# Altium integrated library TI Data Converters Digital to Analog Converter.IntLib: 1533 symbols (part 69 of 99)
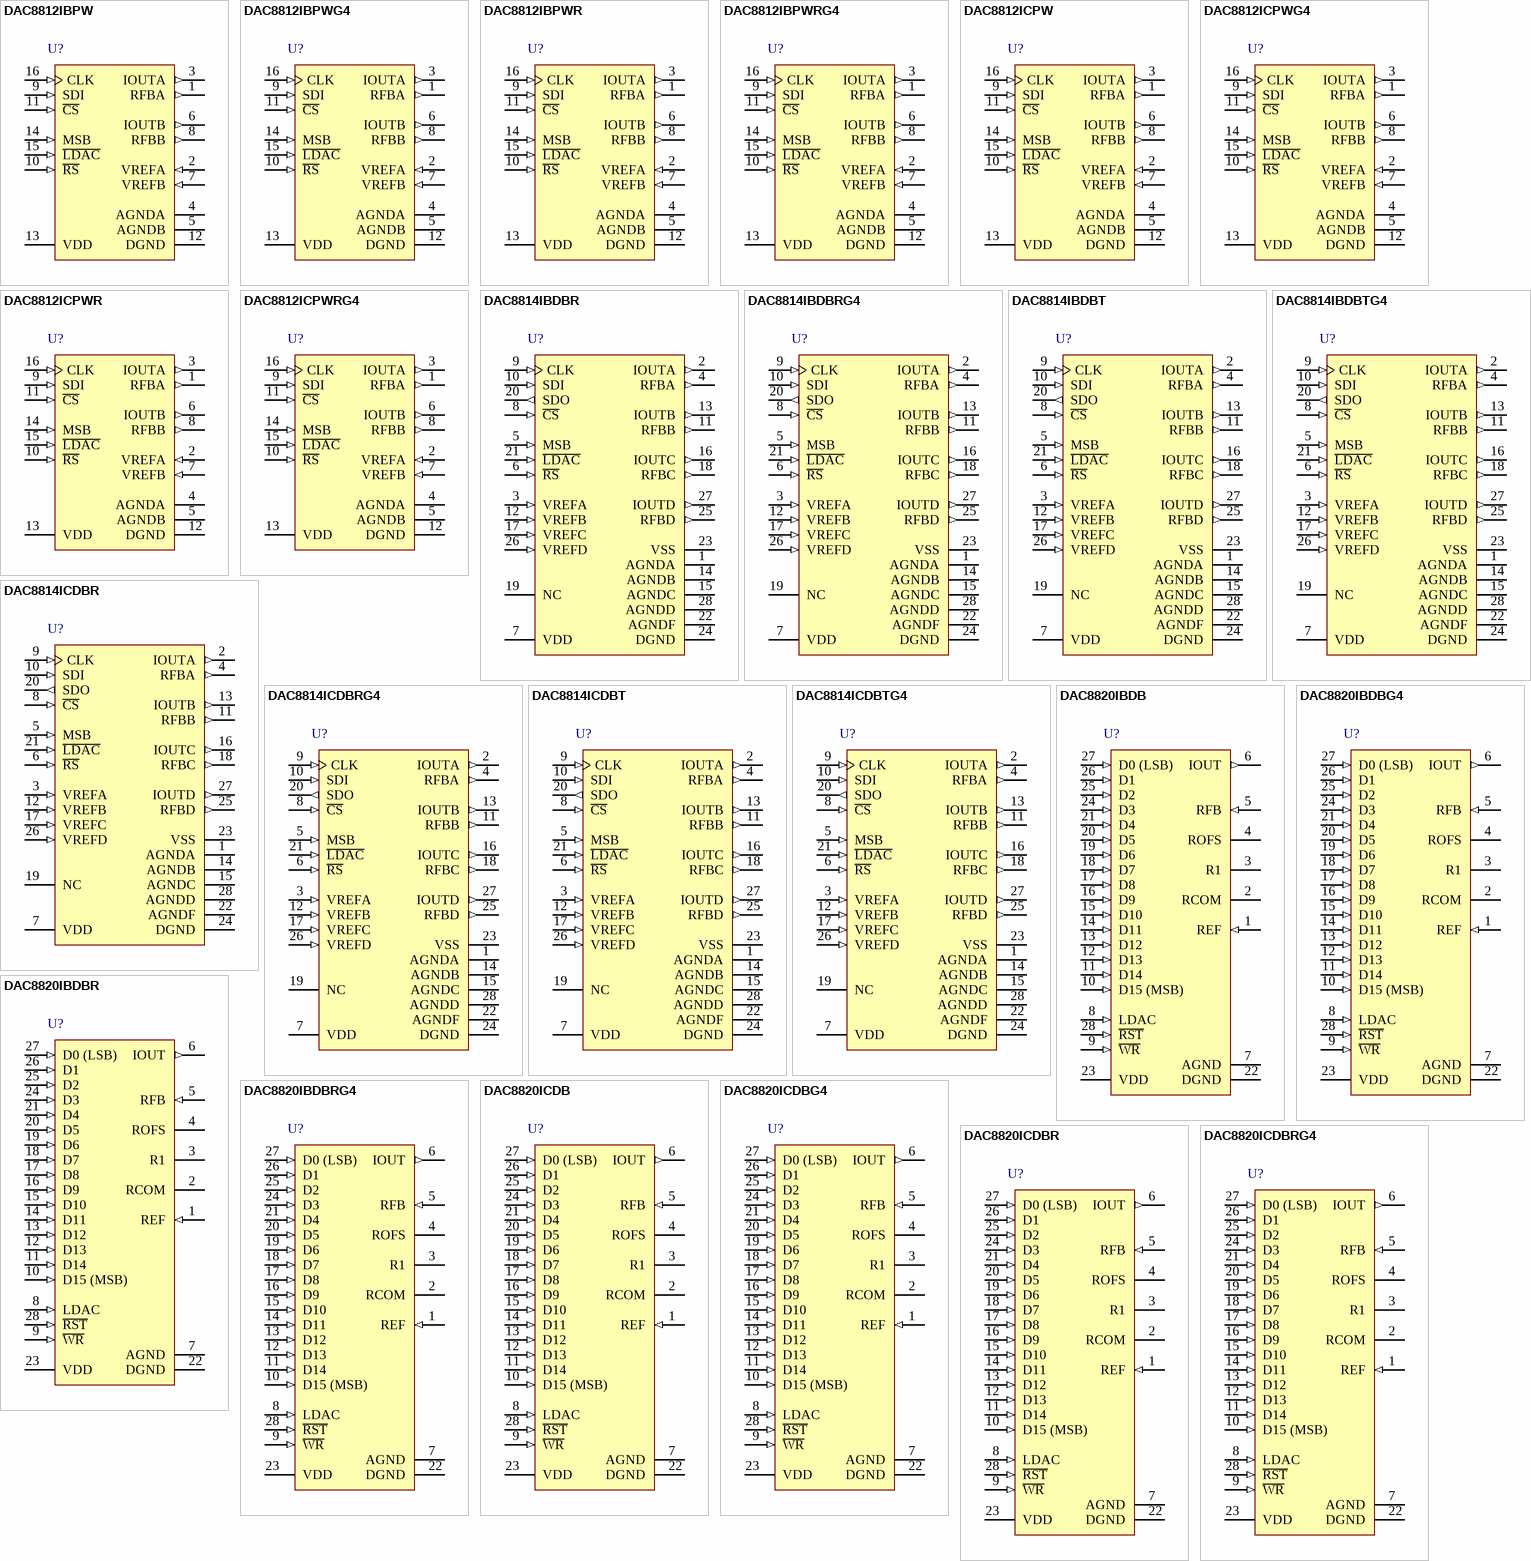
[diagram p141: symbols DAC8812IBPW to DAC8820ICDBRG4]

## DAC8814IBDBR
designator U?
16-Bit, Quad, Serial Input Multiplying Digital to Analog Converter, -40 to 85 degC, 28-pin SOP (DB28), Green (RoHS & no Sb/Br); Manufacturer: Texas Instruments; PartNumber: DAC8814IBDBR; DAC Channels: 4; DNL(Max)(+/-LSB): 1.5; Interface: Serial SPI; Resolution(Bits): 16; Settling Time(us): 0.5; SubFamily: Precision DAC (=<10MSPS); DatasheetVersion: SBAS338D; PackageVersion: 4040065/E, 12/2001; PackageReference: DB28; PackageDescription: 28-Pin Plastic Small Outline, Body 10.2 X 5.3 mm, Pitch 0.65 mm; Supplier 1: Digi-Key; Supplier Part Number 1: DAC8814IBDBR-ND; Supplier 2: Mouser; Supplier Part Number 2: 595-DAC8814IBDBR; Eco-Plan: Green (RoHS & no Sb/Br); INL(Max)(+/-LSB): 4; Mounting Technology: Surface Mount; Code_JEDEC: MO-150; ComponentLink1Description: Manufacturer URL; ComponentLink1URL: http://www.ti.com/; ComponentLink2Description: Datasheet; ComponentLink2URL: http://www.ti.com/general/docs/lit/getliterature.tsp?genericPartNumber=DAC8814&fileType=pdf; ComponentLink3Description: Package Specification; ComponentLink3URL: http://www.ti.com/lit/ml/msso002e/msso002e.pdf
footprint TI-DB28_N (SOP, 28-Leads, Body 10.2x5.3mm, Pitch 0.65mm, IPC Medium Density)
footprint TI-DB28_L (SOP, 28-Leads, Body 10.2x5.3mm, Pitch 0.65mm, IPC High Density)
footprint TI-DB28_M (SOP, 28-Leads, Body 10.2x5.3mm, Pitch 0.65mm, IPC Low Density)
pins: 1 AGNDA (power) "DAC A Analog ground.", 2 IOUTA (out) "DAC A Current output.", 3 VREFA (in) "DAC A Reference voltage input terminal. Establishes DAC full-scale output voltage. Can be tied to VDD.", 4 RFBA (out) "Establish voltage output for DAC A by connecting to external amplifier output.", 5 MSB (in) "MSB Bit set during a reset pulse (RS) or at system power-on if tied to ground or VDD.", 6 ~{RS} (in) "Reset pin, active low. Input register and DAC registers are set to all zeros or half-scale code (8000h) determined by the voltage on the MSB pin. Register data = 8000h when MSB = 1.", 7 VDD (power) "Positive power-supply input. Specified range of operation +2.7 V to +5.5 V.", 8 ~{CS} (in) "Chip select; active low input. Disables shift register loading when high. Transfers shift register data to input register when C\S\/L\D\A\C\ goes high. Does not affect LDAC operation.", 9 CLK (in) "Clock input; positive edge triggered clocks data into shift register", 10 SDI (in) "Serial data input; data loads directly into the shift register.", 11 RFBB (out) "Establish voltage output for DAC B by connecting to external amplifier output.", 12 VREFB (in) "DAC B Reference voltage input terminal. Establishes DAC full-scale output voltage. Can be tied to VDD.", 13 IOUTB (out) "DAC B Current output.", 14 AGNDB (power) "DAC B Analog ground.", 15 AGNDC (power) "DAC C Analog ground.", 16 IOUTC (out) "DAC C Current output.", 17 VREFC (in) "DAC C Reference voltage input terminal. Establishes DAC full-scale output voltage. Can be tied to VDD.", 18 RFBC (out) "Establish voltage output for DAC C by connecting to external amplifier output.", 19 NC "Not connected; leave floating.", 20 SDO (out) "Serial data output; input data loads directly into shift register. Data appears at SDO, 19 clock pulses after input at the SDI pin.", 21 ~{LDAC} (in) "Load DAC register strobe; level sensitive active low. Transfers all input register data to the DAC registers. Asynchronous active low input. See Table 1 for operation.", 22 AGNDF (power) "High current analog force ground.", 23 VSS "No internal connection.", 24 DGND (power) "Digital ground.", 25 RFBD (out) "Establish voltage output for DAC D by connecting to external amplifier output.", 26 VREFD (in) "DAC D Reference voltage input terminal. Establishes DAC full-scale output voltage. Can be tied to VDD.", 27 IOUTD (out) "DAC D Current output.", 28 AGNDD (power) "DAC D Analog ground."

## DAC8814IBDBRG4
designator U?
16-Bit, Quad, Serial Input Multiplying Digital to Analog Converter, -40 to 85 degC, 28-pin SOP (DB28), Green (RoHS & no Sb/Br); Manufacturer: Texas Instruments; PartNumber: DAC8814IBDBRG4; DAC Channels: 4; DNL(Max)(+/-LSB): 1.5; Interface: Serial SPI; Resolution(Bits): 16; Settling Time(us): 0.5; SubFamily: Precision DAC (=<10MSPS); DatasheetVersion: SBAS338D; PackageVersion: 4040065/E, 12/2001; PackageReference: DB28; PackageDescription: 28-Pin Plastic Small Outline, Body 10.2 X 5.3 mm, Pitch 0.65 mm; Supplier 1: Digi-Key; Supplier Part Number 1: DAC8814IBDBRG4-ND; Supplier 2: Mouser; Supplier Part Number 2: 595-DAC8814IBDBRG4; Eco-Plan: Green (RoHS & no Sb/Br); INL(Max)(+/-LSB): 4; Mounting Technology: Surface Mount; Code_JEDEC: MO-150; ComponentLink1Description: Manufacturer URL; ComponentLink1URL: http://www.ti.com/; ComponentLink2Description: Datasheet; ComponentLink2URL: http://www.ti.com/general/docs/lit/getliterature.tsp?genericPartNumber=DAC8814&fileType=pdf; ComponentLink3Description: Package Specification; ComponentLink3URL: http://www.ti.com/lit/ml/msso002e/msso002e.pdf
footprint TI-DB28_N (SOP, 28-Leads, Body 10.2x5.3mm, Pitch 0.65mm, IPC Medium Density)
footprint TI-DB28_L (SOP, 28-Leads, Body 10.2x5.3mm, Pitch 0.65mm, IPC High Density)
footprint TI-DB28_M (SOP, 28-Leads, Body 10.2x5.3mm, Pitch 0.65mm, IPC Low Density)
pins: 1 AGNDA (power) "DAC A Analog ground.", 2 IOUTA (out) "DAC A Current output.", 3 VREFA (in) "DAC A Reference voltage input terminal. Establishes DAC full-scale output voltage. Can be tied to VDD.", 4 RFBA (out) "Establish voltage output for DAC A by connecting to external amplifier output.", 5 MSB (in) "MSB Bit set during a reset pulse (RS) or at system power-on if tied to ground or VDD.", 6 ~{RS} (in) "Reset pin, active low. Input register and DAC registers are set to all zeros or half-scale code (8000h) determined by the voltage on the MSB pin. Register data = 8000h when MSB = 1.", 7 VDD (power) "Positive power-supply input. Specified range of operation +2.7 V to +5.5 V.", 8 ~{CS} (in) "Chip select; active low input. Disables shift register loading when high. Transfers shift register data to input register when C\S\/L\D\A\C\ goes high. Does not affect LDAC operation.", 9 CLK (in) "Clock input; positive edge triggered clocks data into shift register", 10 SDI (in) "Serial data input; data loads directly into the shift register.", 11 RFBB (out) "Establish voltage output for DAC B by connecting to external amplifier output.", 12 VREFB (in) "DAC B Reference voltage input terminal. Establishes DAC full-scale output voltage. Can be tied to VDD.", 13 IOUTB (out) "DAC B Current output.", 14 AGNDB (power) "DAC B Analog ground.", 15 AGNDC (power) "DAC C Analog ground.", 16 IOUTC (out) "DAC C Current output.", 17 VREFC (in) "DAC C Reference voltage input terminal. Establishes DAC full-scale output voltage. Can be tied to VDD.", 18 RFBC (out) "Establish voltage output for DAC C by connecting to external amplifier output.", 19 NC "Not connected; leave floating.", 20 SDO (out) "Serial data output; input data loads directly into shift register. Data appears at SDO, 19 clock pulses after input at the SDI pin.", 21 ~{LDAC} (in) "Load DAC register strobe; level sensitive active low. Transfers all input register data to the DAC registers. Asynchronous active low input. See Table 1 for operation.", 22 AGNDF (power) "High current analog force ground.", 23 VSS "No internal connection.", 24 DGND (power) "Digital ground.", 25 RFBD (out) "Establish voltage output for DAC D by connecting to external amplifier output.", 26 VREFD (in) "DAC D Reference voltage input terminal. Establishes DAC full-scale output voltage. Can be tied to VDD.", 27 IOUTD (out) "DAC D Current output.", 28 AGNDD (power) "DAC D Analog ground."

## DAC8814IBDBT
designator U?
16-Bit, Quad, Serial Input Multiplying Digital to Analog Converter, -40 to 85 degC, 28-pin SOP (DB28), Green (RoHS & no Sb/Br); Manufacturer: Texas Instruments; PartNumber: DAC8814IBDBT; DAC Channels: 4; DNL(Max)(+/-LSB): 1.5; Interface: Serial SPI; Resolution(Bits): 16; Settling Time(us): 0.5; SubFamily: Precision DAC (=<10MSPS); DatasheetVersion: SBAS338D; PackageVersion: 4040065/E, 12/2001; PackageReference: DB28; PackageDescription: 28-Pin Plastic Small Outline, Body 10.2 X 5.3 mm, Pitch 0.65 mm; Supplier 1: Digi-Key; Supplier Part Number 1: 296-18608-2-ND; Supplier 2: Digi-Key; Supplier Part Number 2: 296-18608-1-ND; Supplier 3: Digi-Key; Supplier Part Number 3: 296-18608-6-ND; Supplier 4: Newark; Supplier Part Number 4: 58K5660; Supplier 5: Mouser; Supplier Part Number 5: 595-DAC8814IBDBT; Eco-Plan: Green (RoHS & no Sb/Br); INL(Max)(+/-LSB): 4; Mounting Technology: Surface Mount; Code_JEDEC: MO-150; ComponentLink1Description: Manufacturer URL; ComponentLink1URL: http://www.ti.com/; ComponentLink2Description: Datasheet; ComponentLink2URL: http://www.ti.com/general/docs/lit/getliterature.tsp?genericPartNumber=DAC8814&fileType=pdf; ComponentLink3Description: Package Specification; ComponentLink3URL: http://www.ti.com/lit/ml/msso002e/msso002e.pdf
footprint TI-DB28_N (SOP, 28-Leads, Body 10.2x5.3mm, Pitch 0.65mm, IPC Medium Density)
footprint TI-DB28_L (SOP, 28-Leads, Body 10.2x5.3mm, Pitch 0.65mm, IPC High Density)
footprint TI-DB28_M (SOP, 28-Leads, Body 10.2x5.3mm, Pitch 0.65mm, IPC Low Density)
pins: 1 AGNDA (power) "DAC A Analog ground.", 2 IOUTA (out) "DAC A Current output.", 3 VREFA (in) "DAC A Reference voltage input terminal. Establishes DAC full-scale output voltage. Can be tied to VDD.", 4 RFBA (out) "Establish voltage output for DAC A by connecting to external amplifier output.", 5 MSB (in) "MSB Bit set during a reset pulse (RS) or at system power-on if tied to ground or VDD.", 6 ~{RS} (in) "Reset pin, active low. Input register and DAC registers are set to all zeros or half-scale code (8000h) determined by the voltage on the MSB pin. Register data = 8000h when MSB = 1.", 7 VDD (power) "Positive power-supply input. Specified range of operation +2.7 V to +5.5 V.", 8 ~{CS} (in) "Chip select; active low input. Disables shift register loading when high. Transfers shift register data to input register when C\S\/L\D\A\C\ goes high. Does not affect LDAC operation.", 9 CLK (in) "Clock input; positive edge triggered clocks data into shift register", 10 SDI (in) "Serial data input; data loads directly into the shift register.", 11 RFBB (out) "Establish voltage output for DAC B by connecting to external amplifier output.", 12 VREFB (in) "DAC B Reference voltage input terminal. Establishes DAC full-scale output voltage. Can be tied to VDD.", 13 IOUTB (out) "DAC B Current output.", 14 AGNDB (power) "DAC B Analog ground.", 15 AGNDC (power) "DAC C Analog ground.", 16 IOUTC (out) "DAC C Current output.", 17 VREFC (in) "DAC C Reference voltage input terminal. Establishes DAC full-scale output voltage. Can be tied to VDD.", 18 RFBC (out) "Establish voltage output for DAC C by connecting to external amplifier output.", 19 NC "Not connected; leave floating.", 20 SDO (out) "Serial data output; input data loads directly into shift register. Data appears at SDO, 19 clock pulses after input at the SDI pin.", 21 ~{LDAC} (in) "Load DAC register strobe; level sensitive active low. Transfers all input register data to the DAC registers. Asynchronous active low input. See Table 1 for operation.", 22 AGNDF (power) "High current analog force ground.", 23 VSS "No internal connection.", 24 DGND (power) "Digital ground.", 25 RFBD (out) "Establish voltage output for DAC D by connecting to external amplifier output.", 26 VREFD (in) "DAC D Reference voltage input terminal. Establishes DAC full-scale output voltage. Can be tied to VDD.", 27 IOUTD (out) "DAC D Current output.", 28 AGNDD (power) "DAC D Analog ground."

## DAC8814IBDBTG4
designator U?
16-Bit, Quad, Serial Input Multiplying Digital to Analog Converter, -40 to 85 degC, 28-pin SOP (DB28), Green (RoHS & no Sb/Br); Manufacturer: Texas Instruments; PartNumber: DAC8814IBDBTG4; DAC Channels: 4; DNL(Max)(+/-LSB): 1.5; Interface: Serial SPI; Resolution(Bits): 16; Settling Time(us): 0.5; SubFamily: Precision DAC (=<10MSPS); DatasheetVersion: SBAS338D; PackageVersion: 4040065/E, 12/2001; PackageReference: DB28; PackageDescription: 28-Pin Plastic Small Outline, Body 10.2 X 5.3 mm, Pitch 0.65 mm; Supplier 1: Digi-Key; Supplier Part Number 1: DAC8814IBDBTG4-ND; Supplier 2: Newark; Supplier Part Number 2: 14M1960; Supplier 3: Mouser; Supplier Part Number 3: 595-DAC8814IBDBTG4; Eco-Plan: Green (RoHS & no Sb/Br); INL(Max)(+/-LSB): 4; Mounting Technology: Surface Mount; Code_JEDEC: MO-150; ComponentLink1Description: Manufacturer URL; ComponentLink1URL: http://www.ti.com/; ComponentLink2Description: Datasheet; ComponentLink2URL: http://www.ti.com/general/docs/lit/getliterature.tsp?genericPartNumber=DAC8814&fileType=pdf; ComponentLink3Description: Package Specification; ComponentLink3URL: http://www.ti.com/lit/ml/msso002e/msso002e.pdf
footprint TI-DB28_N (SOP, 28-Leads, Body 10.2x5.3mm, Pitch 0.65mm, IPC Medium Density)
footprint TI-DB28_L (SOP, 28-Leads, Body 10.2x5.3mm, Pitch 0.65mm, IPC High Density)
footprint TI-DB28_M (SOP, 28-Leads, Body 10.2x5.3mm, Pitch 0.65mm, IPC Low Density)
pins: 1 AGNDA (power) "DAC A Analog ground.", 2 IOUTA (out) "DAC A Current output.", 3 VREFA (in) "DAC A Reference voltage input terminal. Establishes DAC full-scale output voltage. Can be tied to VDD.", 4 RFBA (out) "Establish voltage output for DAC A by connecting to external amplifier output.", 5 MSB (in) "MSB Bit set during a reset pulse (RS) or at system power-on if tied to ground or VDD.", 6 ~{RS} (in) "Reset pin, active low. Input register and DAC registers are set to all zeros or half-scale code (8000h) determined by the voltage on the MSB pin. Register data = 8000h when MSB = 1.", 7 VDD (power) "Positive power-supply input. Specified range of operation +2.7 V to +5.5 V.", 8 ~{CS} (in) "Chip select; active low input. Disables shift register loading when high. Transfers shift register data to input register when C\S\/L\D\A\C\ goes high. Does not affect LDAC operation.", 9 CLK (in) "Clock input; positive edge triggered clocks data into shift register", 10 SDI (in) "Serial data input; data loads directly into the shift register.", 11 RFBB (out) "Establish voltage output for DAC B by connecting to external amplifier output.", 12 VREFB (in) "DAC B Reference voltage input terminal. Establishes DAC full-scale output voltage. Can be tied to VDD.", 13 IOUTB (out) "DAC B Current output.", 14 AGNDB (power) "DAC B Analog ground.", 15 AGNDC (power) "DAC C Analog ground.", 16 IOUTC (out) "DAC C Current output.", 17 VREFC (in) "DAC C Reference voltage input terminal. Establishes DAC full-scale output voltage. Can be tied to VDD.", 18 RFBC (out) "Establish voltage output for DAC C by connecting to external amplifier output.", 19 NC "Not connected; leave floating.", 20 SDO (out) "Serial data output; input data loads directly into shift register. Data appears at SDO, 19 clock pulses after input at the SDI pin.", 21 ~{LDAC} (in) "Load DAC register strobe; level sensitive active low. Transfers all input register data to the DAC registers. Asynchronous active low input. See Table 1 for operation.", 22 AGNDF (power) "High current analog force ground.", 23 VSS "No internal connection.", 24 DGND (power) "Digital ground.", 25 RFBD (out) "Establish voltage output for DAC D by connecting to external amplifier output.", 26 VREFD (in) "DAC D Reference voltage input terminal. Establishes DAC full-scale output voltage. Can be tied to VDD.", 27 IOUTD (out) "DAC D Current output.", 28 AGNDD (power) "DAC D Analog ground."

## DAC8814ICDBR
designator U?
16-Bit, Quad, Serial Input Multiplying Digital to Analog Converter, -40 to 85 degC, 28-pin SOP (DB28), Green (RoHS & no Sb/Br); Manufacturer: Texas Instruments; PartNumber: DAC8814ICDBR; DAC Channels: 4; DNL(Max)(+/-LSB): 1; Interface: Serial SPI; Resolution(Bits): 16; Settling Time(us): 0.5; SubFamily: Precision DAC (=<10MSPS); DatasheetVersion: SBAS338D; PackageVersion: 4040065/E, 12/2001; PackageReference: DB28; PackageDescription: 28-Pin Plastic Small Outline, Body 10.2 X 5.3 mm, Pitch 0.65 mm; Supplier 1: Digi-Key; Supplier Part Number 1: DAC8814ICDBR-ND; Supplier 2: Mouser; Supplier Part Number 2: 595-DAC8814ICDBR; Eco-Plan: Green (RoHS & no Sb/Br); INL(Max)(+/-LSB): 1; Mounting Technology: Surface Mount; Code_JEDEC: MO-150; ComponentLink1Description: Manufacturer URL; ComponentLink1URL: http://www.ti.com/; ComponentLink2Description: Datasheet; ComponentLink2URL: http://www.ti.com/general/docs/lit/getliterature.tsp?genericPartNumber=DAC8814&fileType=pdf; ComponentLink3Description: Package Specification; ComponentLink3URL: http://www.ti.com/lit/ml/msso002e/msso002e.pdf
footprint TI-DB28_N (SOP, 28-Leads, Body 10.2x5.3mm, Pitch 0.65mm, IPC Medium Density)
footprint TI-DB28_L (SOP, 28-Leads, Body 10.2x5.3mm, Pitch 0.65mm, IPC High Density)
footprint TI-DB28_M (SOP, 28-Leads, Body 10.2x5.3mm, Pitch 0.65mm, IPC Low Density)
pins: 1 AGNDA (power) "DAC A Analog ground.", 2 IOUTA (out) "DAC A Current output.", 3 VREFA (in) "DAC A Reference voltage input terminal. Establishes DAC full-scale output voltage. Can be tied to VDD.", 4 RFBA (out) "Establish voltage output for DAC A by connecting to external amplifier output.", 5 MSB (in) "MSB Bit set during a reset pulse (RS) or at system power-on if tied to ground or VDD.", 6 ~{RS} (in) "Reset pin, active low. Input register and DAC registers are set to all zeros or half-scale code (8000h) determined by the voltage on the MSB pin. Register data = 8000h when MSB = 1.", 7 VDD (power) "Positive power-supply input. Specified range of operation +2.7 V to +5.5 V.", 8 ~{CS} (in) "Chip select; active low input. Disables shift register loading when high. Transfers shift register data to input register when C\S\/L\D\A\C\ goes high. Does not affect LDAC operation.", 9 CLK (in) "Clock input; positive edge triggered clocks data into shift register", 10 SDI (in) "Serial data input; data loads directly into the shift register.", 11 RFBB (out) "Establish voltage output for DAC B by connecting to external amplifier output.", 12 VREFB (in) "DAC B Reference voltage input terminal. Establishes DAC full-scale output voltage. Can be tied to VDD.", 13 IOUTB (out) "DAC B Current output.", 14 AGNDB (power) "DAC B Analog ground.", 15 AGNDC (power) "DAC C Analog ground.", 16 IOUTC (out) "DAC C Current output.", 17 VREFC (in) "DAC C Reference voltage input terminal. Establishes DAC full-scale output voltage. Can be tied to VDD.", 18 RFBC (out) "Establish voltage output for DAC C by connecting to external amplifier output.", 19 NC "Not connected; leave floating.", 20 SDO (out) "Serial data output; input data loads directly into shift register. Data appears at SDO, 19 clock pulses after input at the SDI pin.", 21 ~{LDAC} (in) "Load DAC register strobe; level sensitive active low. Transfers all input register data to the DAC registers. Asynchronous active low input. See Table 1 for operation.", 22 AGNDF (power) "High current analog force ground.", 23 VSS "No internal connection.", 24 DGND (power) "Digital ground.", 25 RFBD (out) "Establish voltage output for DAC D by connecting to external amplifier output.", 26 VREFD (in) "DAC D Reference voltage input terminal. Establishes DAC full-scale output voltage. Can be tied to VDD.", 27 IOUTD (out) "DAC D Current output.", 28 AGNDD (power) "DAC D Analog ground."

## DAC8814ICDBRG4
designator U?
16-Bit, Quad, Serial Input Multiplying Digital to Analog Converter, -40 to 85 degC, 28-pin SOP (DB28), Green (RoHS & no Sb/Br); Manufacturer: Texas Instruments; PartNumber: DAC8814ICDBRG4; DAC Channels: 4; DNL(Max)(+/-LSB): 1; Interface: Serial SPI; Resolution(Bits): 16; Settling Time(us): 0.5; SubFamily: Precision DAC (=<10MSPS); DatasheetVersion: SBAS338D; PackageVersion: 4040065/E, 12/2001; PackageReference: DB28; PackageDescription: 28-Pin Plastic Small Outline, Body 10.2 X 5.3 mm, Pitch 0.65 mm; Supplier 1: Digi-Key; Supplier Part Number 1: DAC8814ICDBRG4-ND; Supplier 2: Mouser; Supplier Part Number 2: 595-DAC8814ICDBRG4; Eco-Plan: Green (RoHS & no Sb/Br); INL(Max)(+/-LSB): 1; Mounting Technology: Surface Mount; Code_JEDEC: MO-150; ComponentLink1Description: Manufacturer URL; ComponentLink1URL: http://www.ti.com/; ComponentLink2Description: Datasheet; ComponentLink2URL: http://www.ti.com/general/docs/lit/getliterature.tsp?genericPartNumber=DAC8814&fileType=pdf; ComponentLink3Description: Package Specification; ComponentLink3URL: http://www.ti.com/lit/ml/msso002e/msso002e.pdf
footprint TI-DB28_N (SOP, 28-Leads, Body 10.2x5.3mm, Pitch 0.65mm, IPC Medium Density)
footprint TI-DB28_L (SOP, 28-Leads, Body 10.2x5.3mm, Pitch 0.65mm, IPC High Density)
footprint TI-DB28_M (SOP, 28-Leads, Body 10.2x5.3mm, Pitch 0.65mm, IPC Low Density)
pins: 1 AGNDA (power) "DAC A Analog ground.", 2 IOUTA (out) "DAC A Current output.", 3 VREFA (in) "DAC A Reference voltage input terminal. Establishes DAC full-scale output voltage. Can be tied to VDD.", 4 RFBA (out) "Establish voltage output for DAC A by connecting to external amplifier output.", 5 MSB (in) "MSB Bit set during a reset pulse (RS) or at system power-on if tied to ground or VDD.", 6 ~{RS} (in) "Reset pin, active low. Input register and DAC registers are set to all zeros or half-scale code (8000h) determined by the voltage on the MSB pin. Register data = 8000h when MSB = 1.", 7 VDD (power) "Positive power-supply input. Specified range of operation +2.7 V to +5.5 V.", 8 ~{CS} (in) "Chip select; active low input. Disables shift register loading when high. Transfers shift register data to input register when C\S\/L\D\A\C\ goes high. Does not affect LDAC operation.", 9 CLK (in) "Clock input; positive edge triggered clocks data into shift register", 10 SDI (in) "Serial data input; data loads directly into the shift register.", 11 RFBB (out) "Establish voltage output for DAC B by connecting to external amplifier output.", 12 VREFB (in) "DAC B Reference voltage input terminal. Establishes DAC full-scale output voltage. Can be tied to VDD.", 13 IOUTB (out) "DAC B Current output.", 14 AGNDB (power) "DAC B Analog ground.", 15 AGNDC (power) "DAC C Analog ground.", 16 IOUTC (out) "DAC C Current output.", 17 VREFC (in) "DAC C Reference voltage input terminal. Establishes DAC full-scale output voltage. Can be tied to VDD.", 18 RFBC (out) "Establish voltage output for DAC C by connecting to external amplifier output.", 19 NC "Not connected; leave floating.", 20 SDO (out) "Serial data output; input data loads directly into shift register. Data appears at SDO, 19 clock pulses after input at the SDI pin.", 21 ~{LDAC} (in) "Load DAC register strobe; level sensitive active low. Transfers all input register data to the DAC registers. Asynchronous active low input. See Table 1 for operation.", 22 AGNDF (power) "High current analog force ground.", 23 VSS "No internal connection.", 24 DGND (power) "Digital ground.", 25 RFBD (out) "Establish voltage output for DAC D by connecting to external amplifier output.", 26 VREFD (in) "DAC D Reference voltage input terminal. Establishes DAC full-scale output voltage. Can be tied to VDD.", 27 IOUTD (out) "DAC D Current output.", 28 AGNDD (power) "DAC D Analog ground."

## DAC8814ICDBT
designator U?
16-Bit, Quad, Serial Input Multiplying Digital to Analog Converter, -40 to 85 degC, 28-pin SOP (DB28), Green (RoHS & no Sb/Br); Manufacturer: Texas Instruments; PartNumber: DAC8814ICDBT; DAC Channels: 4; DNL(Max)(+/-LSB): 1; Interface: Serial SPI; Resolution(Bits): 16; Settling Time(us): 0.5; SubFamily: Precision DAC (=<10MSPS); DatasheetVersion: SBAS338D; PackageVersion: 4040065/E, 12/2001; PackageReference: DB28; PackageDescription: 28-Pin Plastic Small Outline, Body 10.2 X 5.3 mm, Pitch 0.65 mm; Supplier 1: Digi-Key; Supplier Part Number 1: 296-18609-2-ND; Supplier 2: Digi-Key; Supplier Part Number 2: 296-18609-1-ND; Supplier 3: Digi-Key; Supplier Part Number 3: 296-18609-6-ND; Supplier 4: Farnell; Supplier Part Number 4: 1180103; Supplier 5: Newark; Supplier Part Number 5: 61M2689; Supplier 6: Mouser; Supplier Part Number 6: 595-DAC8814ICDBT; Eco-Plan: Green (RoHS & no Sb/Br); INL(Max)(+/-LSB): 1; Mounting Technology: Surface Mount; Code_JEDEC: MO-150; ComponentLink1Description: Manufacturer URL; ComponentLink1URL: http://www.ti.com/; ComponentLink2Description: Datasheet; ComponentLink2URL: http://www.ti.com/general/docs/lit/getliterature.tsp?genericPartNumber=DAC8814&fileType=pdf; ComponentLink3Description: Package Specification; ComponentLink3URL: http://www.ti.com/lit/ml/msso002e/msso002e.pdf
footprint TI-DB28_N (SOP, 28-Leads, Body 10.2x5.3mm, Pitch 0.65mm, IPC Medium Density)
footprint TI-DB28_L (SOP, 28-Leads, Body 10.2x5.3mm, Pitch 0.65mm, IPC High Density)
footprint TI-DB28_M (SOP, 28-Leads, Body 10.2x5.3mm, Pitch 0.65mm, IPC Low Density)
pins: 1 AGNDA (power) "DAC A Analog ground.", 2 IOUTA (out) "DAC A Current output.", 3 VREFA (in) "DAC A Reference voltage input terminal. Establishes DAC full-scale output voltage. Can be tied to VDD.", 4 RFBA (out) "Establish voltage output for DAC A by connecting to external amplifier output.", 5 MSB (in) "MSB Bit set during a reset pulse (RS) or at system power-on if tied to ground or VDD.", 6 ~{RS} (in) "Reset pin, active low. Input register and DAC registers are set to all zeros or half-scale code (8000h) determined by the voltage on the MSB pin. Register data = 8000h when MSB = 1.", 7 VDD (power) "Positive power-supply input. Specified range of operation +2.7 V to +5.5 V.", 8 ~{CS} (in) "Chip select; active low input. Disables shift register loading when high. Transfers shift register data to input register when C\S\/L\D\A\C\ goes high. Does not affect LDAC operation.", 9 CLK (in) "Clock input; positive edge triggered clocks data into shift register", 10 SDI (in) "Serial data input; data loads directly into the shift register.", 11 RFBB (out) "Establish voltage output for DAC B by connecting to external amplifier output.", 12 VREFB (in) "DAC B Reference voltage input terminal. Establishes DAC full-scale output voltage. Can be tied to VDD.", 13 IOUTB (out) "DAC B Current output.", 14 AGNDB (power) "DAC B Analog ground.", 15 AGNDC (power) "DAC C Analog ground.", 16 IOUTC (out) "DAC C Current output.", 17 VREFC (in) "DAC C Reference voltage input terminal. Establishes DAC full-scale output voltage. Can be tied to VDD.", 18 RFBC (out) "Establish voltage output for DAC C by connecting to external amplifier output.", 19 NC "Not connected; leave floating.", 20 SDO (out) "Serial data output; input data loads directly into shift register. Data appears at SDO, 19 clock pulses after input at the SDI pin.", 21 ~{LDAC} (in) "Load DAC register strobe; level sensitive active low. Transfers all input register data to the DAC registers. Asynchronous active low input. See Table 1 for operation.", 22 AGNDF (power) "High current analog force ground.", 23 VSS "No internal connection.", 24 DGND (power) "Digital ground.", 25 RFBD (out) "Establish voltage output for DAC D by connecting to external amplifier output.", 26 VREFD (in) "DAC D Reference voltage input terminal. Establishes DAC full-scale output voltage. Can be tied to VDD.", 27 IOUTD (out) "DAC D Current output.", 28 AGNDD (power) "DAC D Analog ground."

## DAC8814ICDBTG4
designator U?
16-Bit, Quad, Serial Input Multiplying Digital to Analog Converter, -40 to 85 degC, 28-pin SOP (DB28), Green (RoHS & no Sb/Br); Manufacturer: Texas Instruments; PartNumber: DAC8814ICDBTG4; DAC Channels: 4; DNL(Max)(+/-LSB): 1; Interface: Serial SPI; Resolution(Bits): 16; Settling Time(us): 0.5; SubFamily: Precision DAC (=<10MSPS); DatasheetVersion: SBAS338D; PackageVersion: 4040065/E, 12/2001; PackageReference: DB28; PackageDescription: 28-Pin Plastic Small Outline, Body 10.2 X 5.3 mm, Pitch 0.65 mm; Supplier 1: Digi-Key; Supplier Part Number 1: DAC8814ICDBTG4-ND; Supplier 2: Newark; Supplier Part Number 2: 14M1961; Supplier 3: Mouser; Supplier Part Number 3: 595-DAC8814ICDBTG4; Eco-Plan: Green (RoHS & no Sb/Br); INL(Max)(+/-LSB): 1; Mounting Technology: Surface Mount; Code_JEDEC: MO-150; ComponentLink1Description: Manufacturer URL; ComponentLink1URL: http://www.ti.com/; ComponentLink2Description: Datasheet; ComponentLink2URL: http://www.ti.com/general/docs/lit/getliterature.tsp?genericPartNumber=DAC8814&fileType=pdf; ComponentLink3Description: Package Specification; ComponentLink3URL: http://www.ti.com/lit/ml/msso002e/msso002e.pdf
footprint TI-DB28_N (SOP, 28-Leads, Body 10.2x5.3mm, Pitch 0.65mm, IPC Medium Density)
footprint TI-DB28_L (SOP, 28-Leads, Body 10.2x5.3mm, Pitch 0.65mm, IPC High Density)
footprint TI-DB28_M (SOP, 28-Leads, Body 10.2x5.3mm, Pitch 0.65mm, IPC Low Density)
pins: 1 AGNDA (power) "DAC A Analog ground.", 2 IOUTA (out) "DAC A Current output.", 3 VREFA (in) "DAC A Reference voltage input terminal. Establishes DAC full-scale output voltage. Can be tied to VDD.", 4 RFBA (out) "Establish voltage output for DAC A by connecting to external amplifier output.", 5 MSB (in) "MSB Bit set during a reset pulse (RS) or at system power-on if tied to ground or VDD.", 6 ~{RS} (in) "Reset pin, active low. Input register and DAC registers are set to all zeros or half-scale code (8000h) determined by the voltage on the MSB pin. Register data = 8000h when MSB = 1.", 7 VDD (power) "Positive power-supply input. Specified range of operation +2.7 V to +5.5 V.", 8 ~{CS} (in) "Chip select; active low input. Disables shift register loading when high. Transfers shift register data to input register when C\S\/L\D\A\C\ goes high. Does not affect LDAC operation.", 9 CLK (in) "Clock input; positive edge triggered clocks data into shift register", 10 SDI (in) "Serial data input; data loads directly into the shift register.", 11 RFBB (out) "Establish voltage output for DAC B by connecting to external amplifier output.", 12 VREFB (in) "DAC B Reference voltage input terminal. Establishes DAC full-scale output voltage. Can be tied to VDD.", 13 IOUTB (out) "DAC B Current output.", 14 AGNDB (power) "DAC B Analog ground.", 15 AGNDC (power) "DAC C Analog ground.", 16 IOUTC (out) "DAC C Current output.", 17 VREFC (in) "DAC C Reference voltage input terminal. Establishes DAC full-scale output voltage. Can be tied to VDD.", 18 RFBC (out) "Establish voltage output for DAC C by connecting to external amplifier output.", 19 NC "Not connected; leave floating.", 20 SDO (out) "Serial data output; input data loads directly into shift register. Data appears at SDO, 19 clock pulses after input at the SDI pin.", 21 ~{LDAC} (in) "Load DAC register strobe; level sensitive active low. Transfers all input register data to the DAC registers. Asynchronous active low input. See Table 1 for operation.", 22 AGNDF (power) "High current analog force ground.", 23 VSS "No internal connection.", 24 DGND (power) "Digital ground.", 25 RFBD (out) "Establish voltage output for DAC D by connecting to external amplifier output.", 26 VREFD (in) "DAC D Reference voltage input terminal. Establishes DAC full-scale output voltage. Can be tied to VDD.", 27 IOUTD (out) "DAC D Current output.", 28 AGNDD (power) "DAC D Analog ground."

## DAC8820IBDB
designator U?
16-Bit, Parallel Input Multiplying DAC, -40 to 85 degC, 28-pin SOP (DB28), Green (RoHS & no Sb/Br); Manufacturer: Texas Instruments; PartNumber: DAC8820IBDB; DAC Channels: 1; INL(Max)(+/-LSB): 2; Power Consumption(Typ)(mW): 0.025; Resolution(Bits): 16; Settling Time(us): 0.5; SubFamily: Precision DAC (=<10MSPS); DatasheetVersion: SBAS358D; PackageVersion: 4040065/E, 12/2001; PackageReference: DB28; PackageDescription: 28-Pin Plastic Small Outline, Body 10.2 X 5.3 mm, Pitch 0.65 mm; Supplier 1: Digi-Key; Supplier Part Number 1: 296-19654-5-ND; Supplier 2: Newark; Supplier Part Number 2: 84K1260; Supplier 3: Mouser; Supplier Part Number 3: 595-DAC8820IBDB; DNL(Max)(+/-LSB): 1; Eco-Plan: Green (RoHS & no Sb/Br); Interface: Parallel; Mounting Technology: Surface Mount; Code_JEDEC: MO-150; ComponentLink1Description: Manufacturer URL; ComponentLink1URL: http://www.ti.com/; ComponentLink2Description: Datasheet; ComponentLink2URL: http://www.ti.com/general/docs/lit/getliterature.tsp?genericPartNumber=DAC8820&fileType=pdf; ComponentLink3Description: Package Specification; ComponentLink3URL: http://www.ti.com/lit/ml/msso002e/msso002e.pdf
footprint TI-DB28_N (SOP, 28-Leads, Body 10.2x5.3mm, Pitch 0.65mm, IPC Medium Density)
footprint TI-DB28_L (SOP, 28-Leads, Body 10.2x5.3mm, Pitch 0.65mm, IPC High Density)
footprint TI-DB28_M (SOP, 28-Leads, Body 10.2x5.3mm, Pitch 0.65mm, IPC Low Density)
pins: 1 REF (in) "Reference input and 4-quadrant resistor (R2).", 2 RCOM "Center tap of two 4-quadrant resistors (R1 and R2).", 3 R1 "4-quadrant resistor (R1).", 4 ROFS "Bipolar offset resistor", 5 RFB (in) "Internal matching feedback resistor", 6 IOUT (out) "DAC current output", 7 AGND (power) "Analog ground", 8 LDAC (in) "Digital input load DAC control. When LDAC is high, data is loaded from input register into a DAC register, updating the DAC output.", 9 ~{WR} (in) "Write control digital input. Active low. When W\R\ is taken to logic low, data is loaded from the digital input pins (D0-D15) into a16-bit input register.", 10 D15 (MSB) (in) "Digital input data bits. D15 is MSB.", 11 D14 (in) "Digital input data bits.", 12 D13 (in) "Digital input data bits.", 13 D12 (in) "Digital input data bits.", 14 D11 (in) "Digital input data bits.", 15 D10 (in) "Digital input data bits.", 16 D9 (in) "Digital input data bits.", 17 D8 (in) "Digital input data bits.", 18 D7 (in) "Digital input data bits.", 19 D6 (in) "Digital input data bits.", 20 D5 (in) "Digital input data bits.", 21 D4 (in) "Digital input data bits.", 22 DGND (power) "Digital ground", 23 VDD (power) "Positive power supply", 24 D3 (in) "Digital Input data bits. D0 is LSB.", 25 D2 (in) "Digital Input data bits. D0 is LSB.", 26 D1 (in) "Digital Input data bits. D0 is LSB.", 27 D0 (LSB) (in) "Digital Input data bits. D0 is LSB.", 28 ~{RST} (in) "Reset. Active low. When R\S\T\ is taken to logic low, the DAC register is set to zero code, resulting in the DAC output being set to 0 V."

## DAC8820IBDBG4
designator U?
16-Bit, Parallel Input Multiplying DAC, -40 to 85 degC, 28-pin SOP (DB28), Green (RoHS & no Sb/Br); Manufacturer: Texas Instruments; PartNumber: DAC8820IBDBG4; DAC Channels: 1; INL(Max)(+/-LSB): 2; Power Consumption(Typ)(mW): 0.025; Resolution(Bits): 16; Settling Time(us): 0.5; SubFamily: Precision DAC (=<10MSPS); DatasheetVersion: SBAS358D; PackageVersion: 4040065/E, 12/2001; PackageReference: DB28; PackageDescription: 28-Pin Plastic Small Outline, Body 10.2 X 5.3 mm, Pitch 0.65 mm; Supplier 1: Digi-Key; Supplier Part Number 1: DAC8820IBDBG4-ND; Supplier 2: Mouser; Supplier Part Number 2: 595-DAC8820IBDBG4; DNL(Max)(+/-LSB): 1; Eco-Plan: Green (RoHS & no Sb/Br); Interface: Parallel; Mounting Technology: Surface Mount; Code_JEDEC: MO-150; ComponentLink1Description: Manufacturer URL; ComponentLink1URL: http://www.ti.com/; ComponentLink2Description: Datasheet; ComponentLink2URL: http://www.ti.com/general/docs/lit/getliterature.tsp?genericPartNumber=DAC8820&fileType=pdf; ComponentLink3Description: Package Specification; ComponentLink3URL: http://www.ti.com/lit/ml/msso002e/msso002e.pdf
footprint TI-DB28_N (SOP, 28-Leads, Body 10.2x5.3mm, Pitch 0.65mm, IPC Medium Density)
footprint TI-DB28_L (SOP, 28-Leads, Body 10.2x5.3mm, Pitch 0.65mm, IPC High Density)
footprint TI-DB28_M (SOP, 28-Leads, Body 10.2x5.3mm, Pitch 0.65mm, IPC Low Density)
pins: 1 REF (in) "Reference input and 4-quadrant resistor (R2).", 2 RCOM "Center tap of two 4-quadrant resistors (R1 and R2).", 3 R1 "4-quadrant resistor (R1).", 4 ROFS "Bipolar offset resistor", 5 RFB (in) "Internal matching feedback resistor", 6 IOUT (out) "DAC current output", 7 AGND (power) "Analog ground", 8 LDAC (in) "Digital input load DAC control. When LDAC is high, data is loaded from input register into a DAC register, updating the DAC output.", 9 ~{WR} (in) "Write control digital input. Active low. When W\R\ is taken to logic low, data is loaded from the digital input pins (D0-D15) into a16-bit input register.", 10 D15 (MSB) (in) "Digital input data bits. D15 is MSB.", 11 D14 (in) "Digital input data bits.", 12 D13 (in) "Digital input data bits.", 13 D12 (in) "Digital input data bits.", 14 D11 (in) "Digital input data bits.", 15 D10 (in) "Digital input data bits.", 16 D9 (in) "Digital input data bits.", 17 D8 (in) "Digital input data bits.", 18 D7 (in) "Digital input data bits.", 19 D6 (in) "Digital input data bits.", 20 D5 (in) "Digital input data bits.", 21 D4 (in) "Digital input data bits.", 22 DGND (power) "Digital ground", 23 VDD (power) "Positive power supply", 24 D3 (in) "Digital Input data bits. D0 is LSB.", 25 D2 (in) "Digital Input data bits. D0 is LSB.", 26 D1 (in) "Digital Input data bits. D0 is LSB.", 27 D0 (LSB) (in) "Digital Input data bits. D0 is LSB.", 28 ~{RST} (in) "Reset. Active low. When R\S\T\ is taken to logic low, the DAC register is set to zero code, resulting in the DAC output being set to 0 V."

## DAC8820IBDBR
designator U?
16-Bit, Parallel Input Multiplying DAC, -40 to 85 degC, 28-pin SOP (DB28), Green (RoHS & no Sb/Br); Manufacturer: Texas Instruments; PartNumber: DAC8820IBDBR; DAC Channels: 1; INL(Max)(+/-LSB): 2; Power Consumption(Typ)(mW): 0.025; Resolution(Bits): 16; Settling Time(us): 0.5; SubFamily: Precision DAC (=<10MSPS); DatasheetVersion: SBAS358D; PackageVersion: 4040065/E, 12/2001; PackageReference: DB28; PackageDescription: 28-Pin Plastic Small Outline, Body 10.2 X 5.3 mm, Pitch 0.65 mm; Supplier 1: Digi-Key; Supplier Part Number 1: DAC8820IBDBR-ND; Supplier 2: Mouser; Supplier Part Number 2: 595-DAC8820IBDBR; DNL(Max)(+/-LSB): 1; Eco-Plan: Green (RoHS & no Sb/Br); Interface: Parallel; Mounting Technology: Surface Mount; Code_JEDEC: MO-150; ComponentLink1Description: Manufacturer URL; ComponentLink1URL: http://www.ti.com/; ComponentLink2Description: Datasheet; ComponentLink2URL: http://www.ti.com/general/docs/lit/getliterature.tsp?genericPartNumber=DAC8820&fileType=pdf; ComponentLink3Description: Package Specification; ComponentLink3URL: http://www.ti.com/lit/ml/msso002e/msso002e.pdf
footprint TI-DB28_N (SOP, 28-Leads, Body 10.2x5.3mm, Pitch 0.65mm, IPC Medium Density)
footprint TI-DB28_L (SOP, 28-Leads, Body 10.2x5.3mm, Pitch 0.65mm, IPC High Density)
footprint TI-DB28_M (SOP, 28-Leads, Body 10.2x5.3mm, Pitch 0.65mm, IPC Low Density)
pins: 1 REF (in) "Reference input and 4-quadrant resistor (R2).", 2 RCOM "Center tap of two 4-quadrant resistors (R1 and R2).", 3 R1 "4-quadrant resistor (R1).", 4 ROFS "Bipolar offset resistor", 5 RFB (in) "Internal matching feedback resistor", 6 IOUT (out) "DAC current output", 7 AGND (power) "Analog ground", 8 LDAC (in) "Digital input load DAC control. When LDAC is high, data is loaded from input register into a DAC register, updating the DAC output.", 9 ~{WR} (in) "Write control digital input. Active low. When W\R\ is taken to logic low, data is loaded from the digital input pins (D0-D15) into a16-bit input register.", 10 D15 (MSB) (in) "Digital input data bits. D15 is MSB.", 11 D14 (in) "Digital input data bits.", 12 D13 (in) "Digital input data bits.", 13 D12 (in) "Digital input data bits.", 14 D11 (in) "Digital input data bits.", 15 D10 (in) "Digital input data bits.", 16 D9 (in) "Digital input data bits.", 17 D8 (in) "Digital input data bits.", 18 D7 (in) "Digital input data bits.", 19 D6 (in) "Digital input data bits.", 20 D5 (in) "Digital input data bits.", 21 D4 (in) "Digital input data bits.", 22 DGND (power) "Digital ground", 23 VDD (power) "Positive power supply", 24 D3 (in) "Digital Input data bits. D0 is LSB.", 25 D2 (in) "Digital Input data bits. D0 is LSB.", 26 D1 (in) "Digital Input data bits. D0 is LSB.", 27 D0 (LSB) (in) "Digital Input data bits. D0 is LSB.", 28 ~{RST} (in) "Reset. Active low. When R\S\T\ is taken to logic low, the DAC register is set to zero code, resulting in the DAC output being set to 0 V."

## DAC8820IBDBRG4
designator U?
16-Bit, Parallel Input Multiplying DAC, -40 to 85 degC, 28-pin SOP (DB28), Green (RoHS & no Sb/Br); Manufacturer: Texas Instruments; PartNumber: DAC8820IBDBRG4; DAC Channels: 1; INL(Max)(+/-LSB): 2; Power Consumption(Typ)(mW): 0.025; Resolution(Bits): 16; Settling Time(us): 0.5; SubFamily: Precision DAC (=<10MSPS); DatasheetVersion: SBAS358D; PackageVersion: 4040065/E, 12/2001; PackageReference: DB28; PackageDescription: 28-Pin Plastic Small Outline, Body 10.2 X 5.3 mm, Pitch 0.65 mm; Supplier 1: Digi-Key; Supplier Part Number 1: DAC8820IBDBRG4-ND; Supplier 2: Mouser; Supplier Part Number 2: 595-DAC8820IBDBRG4; DNL(Max)(+/-LSB): 1; Eco-Plan: Green (RoHS & no Sb/Br); Interface: Parallel; Mounting Technology: Surface Mount; Code_JEDEC: MO-150; ComponentLink1Description: Manufacturer URL; ComponentLink1URL: http://www.ti.com/; ComponentLink2Description: Datasheet; ComponentLink2URL: http://www.ti.com/general/docs/lit/getliterature.tsp?genericPartNumber=DAC8820&fileType=pdf; ComponentLink3Description: Package Specification; ComponentLink3URL: http://www.ti.com/lit/ml/msso002e/msso002e.pdf
footprint TI-DB28_N (SOP, 28-Leads, Body 10.2x5.3mm, Pitch 0.65mm, IPC Medium Density)
footprint TI-DB28_L (SOP, 28-Leads, Body 10.2x5.3mm, Pitch 0.65mm, IPC High Density)
footprint TI-DB28_M (SOP, 28-Leads, Body 10.2x5.3mm, Pitch 0.65mm, IPC Low Density)
pins: 1 REF (in) "Reference input and 4-quadrant resistor (R2).", 2 RCOM "Center tap of two 4-quadrant resistors (R1 and R2).", 3 R1 "4-quadrant resistor (R1).", 4 ROFS "Bipolar offset resistor", 5 RFB (in) "Internal matching feedback resistor", 6 IOUT (out) "DAC current output", 7 AGND (power) "Analog ground", 8 LDAC (in) "Digital input load DAC control. When LDAC is high, data is loaded from input register into a DAC register, updating the DAC output.", 9 ~{WR} (in) "Write control digital input. Active low. When W\R\ is taken to logic low, data is loaded from the digital input pins (D0-D15) into a16-bit input register.", 10 D15 (MSB) (in) "Digital input data bits. D15 is MSB.", 11 D14 (in) "Digital input data bits.", 12 D13 (in) "Digital input data bits.", 13 D12 (in) "Digital input data bits.", 14 D11 (in) "Digital input data bits.", 15 D10 (in) "Digital input data bits.", 16 D9 (in) "Digital input data bits.", 17 D8 (in) "Digital input data bits.", 18 D7 (in) "Digital input data bits.", 19 D6 (in) "Digital input data bits.", 20 D5 (in) "Digital input data bits.", 21 D4 (in) "Digital input data bits.", 22 DGND (power) "Digital ground", 23 VDD (power) "Positive power supply", 24 D3 (in) "Digital Input data bits. D0 is LSB.", 25 D2 (in) "Digital Input data bits. D0 is LSB.", 26 D1 (in) "Digital Input data bits. D0 is LSB.", 27 D0 (LSB) (in) "Digital Input data bits. D0 is LSB.", 28 ~{RST} (in) "Reset. Active low. When R\S\T\ is taken to logic low, the DAC register is set to zero code, resulting in the DAC output being set to 0 V."

## DAC8820ICDB
designator U?
16-Bit, Parallel Input Multiplying DAC, -40 to 85 degC, 28-pin SOP (DB28), Green (RoHS & no Sb/Br); Manufacturer: Texas Instruments; PartNumber: DAC8820ICDB; DAC Channels: 1; Power Consumption(Typ)(mW): 0.025; Resolution(Bits): 16; Settling Time(us): 0.5; SubFamily: Precision DAC (=<10MSPS); DatasheetVersion: SBAS358D; PackageVersion: 4040065/E, 12/2001; PackageReference: DB28; PackageDescription: 28-Pin Plastic Small Outline, Body 10.2 X 5.3 mm, Pitch 0.65 mm; Supplier 1: Digi-Key; Supplier Part Number 1: 296-19655-5-ND; Supplier 2: Newark; Supplier Part Number 2: 84K1262; Supplier 3: Mouser; Supplier Part Number 3: 595-DAC8820ICDB; DNL(Max)(+/-LSB): 1; Eco-Plan: Green (RoHS & no Sb/Br); INL(Max)(+/-LSB): 1; Interface: Parallel; Mounting Technology: Surface Mount; Code_JEDEC: MO-150; ComponentLink1Description: Manufacturer URL; ComponentLink1URL: http://www.ti.com/; ComponentLink2Description: Datasheet; ComponentLink2URL: http://www.ti.com/general/docs/lit/getliterature.tsp?genericPartNumber=DAC8820&fileType=pdf; ComponentLink3Description: Package Specification; ComponentLink3URL: http://www.ti.com/lit/ml/msso002e/msso002e.pdf
footprint TI-DB28_N (SOP, 28-Leads, Body 10.2x5.3mm, Pitch 0.65mm, IPC Medium Density)
footprint TI-DB28_L (SOP, 28-Leads, Body 10.2x5.3mm, Pitch 0.65mm, IPC High Density)
footprint TI-DB28_M (SOP, 28-Leads, Body 10.2x5.3mm, Pitch 0.65mm, IPC Low Density)
pins: 1 REF (in) "Reference input and 4-quadrant resistor (R2).", 2 RCOM "Center tap of two 4-quadrant resistors (R1 and R2).", 3 R1 "4-quadrant resistor (R1).", 4 ROFS "Bipolar offset resistor", 5 RFB (in) "Internal matching feedback resistor", 6 IOUT (out) "DAC current output", 7 AGND (power) "Analog ground", 8 LDAC (in) "Digital input load DAC control. When LDAC is high, data is loaded from input register into a DAC register, updating the DAC output.", 9 ~{WR} (in) "Write control digital input. Active low. When W\R\ is taken to logic low, data is loaded from the digital input pins (D0-D15) into a16-bit input register.", 10 D15 (MSB) (in) "Digital input data bits. D15 is MSB.", 11 D14 (in) "Digital input data bits.", 12 D13 (in) "Digital input data bits.", 13 D12 (in) "Digital input data bits.", 14 D11 (in) "Digital input data bits.", 15 D10 (in) "Digital input data bits.", 16 D9 (in) "Digital input data bits.", 17 D8 (in) "Digital input data bits.", 18 D7 (in) "Digital input data bits.", 19 D6 (in) "Digital input data bits.", 20 D5 (in) "Digital input data bits.", 21 D4 (in) "Digital input data bits.", 22 DGND (power) "Digital ground", 23 VDD (power) "Positive power supply", 24 D3 (in) "Digital Input data bits. D0 is LSB.", 25 D2 (in) "Digital Input data bits. D0 is LSB.", 26 D1 (in) "Digital Input data bits. D0 is LSB.", 27 D0 (LSB) (in) "Digital Input data bits. D0 is LSB.", 28 ~{RST} (in) "Reset. Active low. When R\S\T\ is taken to logic low, the DAC register is set to zero code, resulting in the DAC output being set to 0 V."

## DAC8820ICDBG4
designator U?
16-Bit, Parallel Input Multiplying DAC, -40 to 85 degC, 28-pin SOP (DB28), Green (RoHS & no Sb/Br); Manufacturer: Texas Instruments; PartNumber: DAC8820ICDBG4; DAC Channels: 1; Power Consumption(Typ)(mW): 0.025; Resolution(Bits): 16; Settling Time(us): 0.5; SubFamily: Precision DAC (=<10MSPS); DatasheetVersion: SBAS358D; PackageVersion: 4040065/E, 12/2001; PackageReference: DB28; PackageDescription: 28-Pin Plastic Small Outline, Body 10.2 X 5.3 mm, Pitch 0.65 mm; Supplier 1: Digi-Key; Supplier Part Number 1: DAC8820ICDBG4-ND; Supplier 2: Farnell; Supplier Part Number 2: 1390688; Supplier 3: Newark; Supplier Part Number 3: 18M2001; Supplier 4: Mouser; Supplier Part Number 4: 595-DAC8820ICDBG4; DNL(Max)(+/-LSB): 1; Eco-Plan: Green (RoHS & no Sb/Br); INL(Max)(+/-LSB): 1; Interface: Parallel; Mounting Technology: Surface Mount; Code_JEDEC: MO-150; ComponentLink1Description: Manufacturer URL; ComponentLink1URL: http://www.ti.com/; ComponentLink2Description: Datasheet; ComponentLink2URL: http://www.ti.com/general/docs/lit/getliterature.tsp?genericPartNumber=DAC8820&fileType=pdf; ComponentLink3Description: Package Specification; ComponentLink3URL: http://www.ti.com/lit/ml/msso002e/msso002e.pdf
footprint TI-DB28_N (SOP, 28-Leads, Body 10.2x5.3mm, Pitch 0.65mm, IPC Medium Density)
footprint TI-DB28_L (SOP, 28-Leads, Body 10.2x5.3mm, Pitch 0.65mm, IPC High Density)
footprint TI-DB28_M (SOP, 28-Leads, Body 10.2x5.3mm, Pitch 0.65mm, IPC Low Density)
pins: 1 REF (in) "Reference input and 4-quadrant resistor (R2).", 2 RCOM "Center tap of two 4-quadrant resistors (R1 and R2).", 3 R1 "4-quadrant resistor (R1).", 4 ROFS "Bipolar offset resistor", 5 RFB (in) "Internal matching feedback resistor", 6 IOUT (out) "DAC current output", 7 AGND (power) "Analog ground", 8 LDAC (in) "Digital input load DAC control. When LDAC is high, data is loaded from input register into a DAC register, updating the DAC output.", 9 ~{WR} (in) "Write control digital input. Active low. When W\R\ is taken to logic low, data is loaded from the digital input pins (D0-D15) into a16-bit input register.", 10 D15 (MSB) (in) "Digital input data bits. D15 is MSB.", 11 D14 (in) "Digital input data bits.", 12 D13 (in) "Digital input data bits.", 13 D12 (in) "Digital input data bits.", 14 D11 (in) "Digital input data bits.", 15 D10 (in) "Digital input data bits.", 16 D9 (in) "Digital input data bits.", 17 D8 (in) "Digital input data bits.", 18 D7 (in) "Digital input data bits.", 19 D6 (in) "Digital input data bits.", 20 D5 (in) "Digital input data bits.", 21 D4 (in) "Digital input data bits.", 22 DGND (power) "Digital ground", 23 VDD (power) "Positive power supply", 24 D3 (in) "Digital Input data bits. D0 is LSB.", 25 D2 (in) "Digital Input data bits. D0 is LSB.", 26 D1 (in) "Digital Input data bits. D0 is LSB.", 27 D0 (LSB) (in) "Digital Input data bits. D0 is LSB.", 28 ~{RST} (in) "Reset. Active low. When R\S\T\ is taken to logic low, the DAC register is set to zero code, resulting in the DAC output being set to 0 V."